# EAGLE library part HEADER-14P-1R (library deiring-components)
Header 14 Pin 1 Row
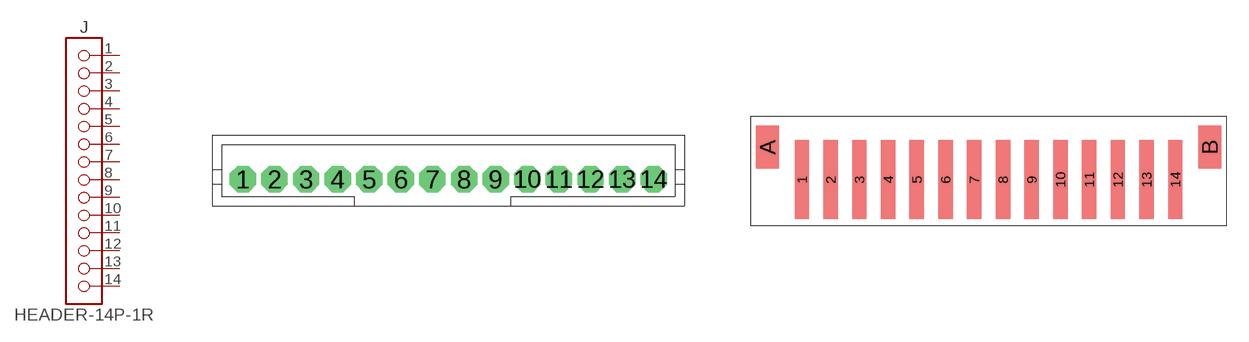
[diagram p27: symbol with the pads of JST-B14B-PH-K-S; footprints JST-B14B-PH-K-S, JST-B14B-PH-SM4-TB]

Designator prefix J

## HEADER-14P-1R-B14B-PH-K-S (LCSC: C158024; MF: JST Sales America; MPN: B14B-PH-K-S(LF)(SN); VALUE: 14P)  [JST-B14B-PH-K-S]
1  01  pas
2  02  pas
3  03  pas
4  04  pas
5  05  pas
6  06  pas
7  07  pas
8  08  pas
9  09  pas
10  10  pas
11  11  pas
12  12  pas
13  13  pas
14  14  pas

## HEADER-14P-1R-B14B-PH-SM4-TB (MF: JST Sales America; MPN: B14B-PH-SM4-TB(LF)(SN); VALUE: 14P)  [JST-B14B-PH-SM4-TB]
Pads as for JST-B14B-PH-K-S

## HEADER-14P-1R-S14B-PH-K-S (LCSC: C157938; MF: JST Sales America; MPN: S14B-PH-K-S(LF)(SN); VALUE: 14P)  [JST-S14B-PH-K-S]
Pads as for JST-B14B-PH-K-S

## HEADER-14P-1R-S14B-PH-SM4-TB (MF: JST Sales America; MPN: S14B-PH-SM4-TB(LF)(SN); VALUE: 14P)  [JST-S14B-PH-SM4-TB]
Pads as for JST-B14B-PH-K-S

## HEADER-14P-1R-KF2EDGV-5.08-14P (MF: Cixi Kefa Elec; MPN: KF2EDGV-5.08-14P; VALUE: 14P)  [KF2EDGV-5.08-14P]
Pads as for JST-B14B-PH-K-S

## HEADER-14P-1R-WJ15EDGVC-3.81-14P (LCSC: C49858; MF: Ningbo Kangnex Elec; MPN: WJ15EDGVC-3.81-14P; VALUE: 14P)  [WJ15EDGVC-3.81-14P]
Pads as for JST-B14B-PH-K-S

## HEADER-14P-1R-KF2EDGR-5.08-14P (MF: Cixi Kefa Elec; MPN: KF2EDGR-5.08-14P; VALUE: 14P)  [KF2EDGR-5.08-14P]
Pads as for JST-B14B-PH-K-S

## Footprint JST-B14B-PH-K-S (pad centres in mm)
drill 0.813 pad 1.676 octagon: 1 -13,0; 2 -11,0; 3 -9,0; 4 -7,0; 5 -5,0; 6 -3,0; 7 -1,0; 8 1,0; 9 3,0; 10 5,0; 11 7,0; 12 9,0; 13 11,0; 14 13,0

## Footprint JST-B14B-PH-SM4-TB (pad centres in mm)
smd 1 x 5.5: 1 -13,0; 2 -11,0; 3 -9,0; 4 -7,0; 5 -5,0; 6 -3,0; 7 -1,0; 8 1,0; 9 3,0; 10 5,0; 11 7,0; 12 9,0; 13 11,0; 14 13,0
smd 1.6 x 3: A -15.4,2.25; B 15.4,2.25

## Footprint JST-S14B-PH-K-S (pad centres in mm)
drill 0.813 pad 1.676 octagon: 1 -13,0; 2 -11,0; 3 -9,0; 4 -7,0; 5 -5,0; 6 -3,0; 7 -1,0; 8 1,0; 9 3,0; 10 5,0; 11 7,0; 12 9,0; 13 11,0; 14 13,0

## Footprint JST-S14B-PH-SM4-TB (pad centres in mm)
smd 1 x 3.5: 1 -14,0; 2 -12,0; 3 -10,0; 4 -8,0; 5 -6,0; 6 -4,0; 7 -2,0; 8 0,0; 9 2,0; 10 4,0; 11 6,0; 12 8,0; 13 10,0; 14 12,0
smd 1.5 x 3.4: A -16.35,5.55; B 14.35,5.55

## Footprint KF2EDGV-5.08-14P (pad centres in mm)
drill 1.6: 1 -33.02,0; 2 -27.94,0; 3 -22.86,0; 4 -17.78,0; 5 -12.7,0; 6 -7.62,0; 7 -2.54,0; 8 2.54,0; 9 7.62,0; 10 12.7,0; 11 17.78,0; 12 22.86,0; 13 27.94,0; 14 33.02,0

## Footprint WJ15EDGVC-3.81-14P (pad centres in mm)
drill 1.2 pad 2: 1 -24.765,0; 2 -20.955,0; 3 -17.145,0; 4 -13.335,0; 5 -9.525,0; 6 -5.715,0; 7 -1.905,0; 8 1.905,0; 9 5.715,0; 10 9.525,0; 11 13.335,0; 12 17.145,0; 13 20.955,0; 14 24.765,0

## Footprint KF2EDGR-5.08-14P (pad centres in mm)
drill 1.6: 1 -33.02,0; 2 -27.94,0; 3 -22.86,0; 4 -17.78,0; 5 -12.7,0; 6 -7.62,0; 7 -2.54,0; 8 2.54,0; 9 7.62,0; 10 12.7,0; 11 17.78,0; 12 22.86,0; 13 27.94,0; 14 33.02,0